# Altium footprint library mcm-imx93_footprint.PcbLib: 1 footprints
Each footprint in its own frame and in the unit in brackets; x right, y up, seen from the top. Pads: shape width x height; smd on the part's side, far side on the other; paste and mask are expansions set on the pad; w line width, h text height; cw(c..) or ccw(c..) is an arc to the next point about the centre after c.
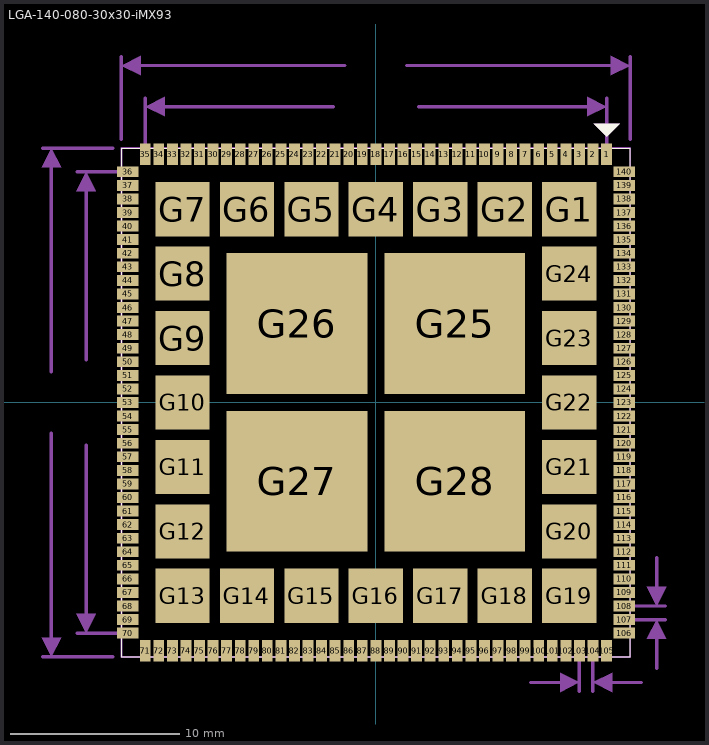
[diagram p0: the footprint, top view; thin cyan lines are the x and y axes]

## LGA-140-080-30x30-iMX93 [mm]
height 0.025
pads (168):
  rrect0% 0.64x1.275 smd paste-2539.97 mask+0: 1(13.6,14.637) 2(12.8,14.637) 3(12,14.637) 4(11.2,14.637) 5(10.4,14.637) 6(9.6,14.637) 7(8.8,14.637) 8(8,14.637) 9(7.2,14.637) 10(6.4,14.637) 11(5.6,14.637) 12(4.8,14.637) 13(4,14.637) 14(3.2,14.637) 15(2.4,14.637) 16(1.6,14.637) 17(0.8,14.637) 18(0,14.637) 19(-0.8,14.637) 20(-1.6,14.637) 21(-2.4,14.637) 22(-3.2,14.637) 23(-4,14.637) 24(-4.8,14.637) 25(-5.6,14.637) 26(-6.4,14.637) 27(-7.2,14.637) 28(-8,14.637) 29(-8.8,14.637) 30(-9.6,14.637) 31(-10.4,14.637) 32(-11.2,14.637) 33(-12,14.637) 34(-12.8,14.637) 35(-13.6,14.637) 71(-13.6,-14.638) 72(-12.8,-14.638) 73(-12,-14.638) 74(-11.2,-14.638) 75(-10.4,-14.638) 76(-9.6,-14.638) 77(-8.8,-14.638) 78(-8,-14.638) 79(-7.2,-14.638) 80(-6.4,-14.638) 81(-5.6,-14.638) 82(-4.8,-14.638) 83(-4,-14.638) 84(-3.2,-14.638) 85(-2.4,-14.638) 86(-1.6,-14.638) 87(-0.8,-14.638) 88(0,-14.638) 89(0.8,-14.638) 90(1.6,-14.638) 91(2.4,-14.638) 92(3.2,-14.638) 93(4,-14.638) 94(4.8,-14.638) 95(5.6,-14.638) 96(6.4,-14.638) 97(7.2,-14.638) 98(8,-14.638) 99(8.8,-14.638) 100(9.6,-14.638) 101(10.4,-14.638) 102(11.2,-14.638) 103(12,-14.638) 104(12.8,-14.638) 105(13.6,-14.638)
  rrect0% 1.275x0.64 smd paste-2539.97 mask+0: 36(-14.638,13.6) 37(-14.638,12.8) 38(-14.638,12) 39(-14.638,11.2) 40(-14.638,10.4) 41(-14.638,9.6) 42(-14.638,8.8) 43(-14.638,8) 44(-14.638,7.2) 45(-14.638,6.4) 46(-14.638,5.6) 47(-14.638,4.8) 48(-14.638,4) 49(-14.638,3.2) 50(-14.638,2.4) 51(-14.638,1.6) 52(-14.638,0.8) 53(-14.638,0) 54(-14.638,-0.8) 55(-14.638,-1.6) 56(-14.638,-2.4) 57(-14.638,-3.2) 58(-14.638,-4) 59(-14.638,-4.8) 60(-14.638,-5.6) 61(-14.638,-6.4) 62(-14.638,-7.2) 63(-14.638,-8) 64(-14.638,-8.8) 65(-14.638,-9.6) 66(-14.638,-10.4) 67(-14.638,-11.2) 68(-14.638,-12) 69(-14.638,-12.8) 70(-14.638,-13.6) 106(14.637,-13.6) 107(14.637,-12.8) 108(14.637,-12) 109(14.637,-11.2) 110(14.637,-10.4) 111(14.637,-9.6) 112(14.637,-8.8) 113(14.637,-8) 114(14.637,-7.2) 115(14.637,-6.4) 116(14.637,-5.6) 117(14.637,-4.8) 118(14.637,-4) 119(14.637,-3.2) 120(14.637,-2.4) 121(14.637,-1.6) 122(14.637,-0.8) 123(14.637,0) 124(14.637,0.8) 125(14.637,1.6) 126(14.637,2.4) 127(14.637,3.2) 128(14.637,4) 129(14.637,4.8) 130(14.637,5.6) 131(14.637,6.4) 132(14.637,7.2) 133(14.637,8) 134(14.637,8.8) 135(14.637,9.6) 136(14.637,10.4) 137(14.637,11.2) 138(14.637,12) 139(14.637,12.8) 140(14.637,13.6)
  rrect0% 3.2x3.2 smd paste-2539.97 mask+0: G1(11.4,11.4) G2(7.6,11.4) G3(3.8,11.4) G4(0,11.4) G5(-3.8,11.4) G6(-7.6,11.4) G7(-11.4,11.4) G8(-11.4,7.6) G9(-11.4,3.8) G10(-11.4,0) G11(-11.4,-3.8) G12(-11.4,-7.6) G13(-11.4,-11.4) G14(-7.6,-11.4) G15(-3.8,-11.4) G16(0,-11.4) G17(3.8,-11.4) G18(7.6,-11.4) G19(11.4,-11.4) G20(11.4,-7.6) G21(11.4,-3.8) G22(11.4,0) G23(11.4,3.8) G24(11.4,7.6)
  rrect0% 8.3x8.3 smd paste-2539.97 mask+0.05: G25(4.65,4.65) G26(-4.65,4.65) G27(-4.65,-4.65) G28(4.65,-4.65)
Top Overlay:
  region: 12.859,16.437 13.621,15.675 14.383,16.437
  lines w0: -15,-15 15,-15 15,15 -15,15 -15,-15
Top Paste:
  drawing of 236 lines, arcs and shapes, not listed
Top Assembly:
  region: 12.859,16.437 13.621,15.675 14.383,16.437
  region: 12,-16.508 10.857,-17.08 10.857,-15.937
  region: 12.8,-16.508 13.943,-15.937 13.943,-17.08
  region: 16.556,-12 15.985,-10.857 17.128,-10.857
  region: 16.556,-12.8 17.128,-13.943 15.985,-13.943
  region: -19.135,-15 -19.706,-13.857 -18.563,-13.857
  region: -19.135,15 -18.563,13.857 -19.706,13.857
  region: -17.086,13.6 -16.515,12.457 -17.658,12.457
  region: -17.086,-13.6 -17.658,-12.457 -16.515,-12.457
  region: -15,19.868 -13.857,20.439 -13.857,19.296
  region: 15,19.868 13.857,19.296 13.857,20.439
  region: -13.6,17.44 -12.457,18.012 -12.457,16.869
  region: 13.6,17.44 12.457,16.869 12.457,18.012
  lines w0.1: -15,-15 15,-15 15,15 -15,15 -15,-15
  lines w0.203: -19.643,-15 -15.508,-15 ; -19.643,15 -15.508,15 ; -19.135,-14.429 -19.135,-1.821 ; -19.135,1.821 -19.135,14.428 ; -17.594,-13.6 -15.146,-13.6 ; -17.594,13.6 -15.146,13.6 ; -17.086,-13.029 -17.086,-2.518 ; -17.086,2.518 -17.086,13.029 ; -15,15.508 -15,20.376 ; -14.429,19.868 -1.821,19.868 ; -13.6,15.145 -13.6,17.948 ; -13.029,17.44 -2.518,17.44 ; 1.821,19.868 14.429,19.868 ; 2.518,17.44 13.029,17.44 ; 9.142,-16.508 11.428,-16.508 ; 12,-17.016 12,-15.146 ; 12.8,-17.016 12.8,-15.146 ; 13.371,-16.508 15.657,-16.508 ; 13.6,15.145 13.6,17.948 ; 15,15.508 15,20.376 ; 15.145,-12.8 17.064,-12.8 ; 15.145,-12 17.064,-12 ; 16.556,-15.657 16.556,-13.371 ; 16.556,-11.428 16.556,-9.142
  text "27.2mm" at -2.199,17.04 h0.8
  text "30mm" at -1.466,19.468 h0.8
  text "27.2mm" at -16.686,-2.199 h0.8
  text "30mm" at -18.735,-1.466 h0.8
  text "0.8mm" at 10.464,-18.571 h0.8
  text "0.8mm" at 18.536,-14.382 h0.8
Top Courtyard:
  lines w0: -15,-15 15,-15 15,15 -15,15 -15,-15
Mechanical 7:
  text ".Designator" at -4.998,-0.333 h1
  text ".Designator" at -4.998,-0.333 h1
Mechanical 9:
  text ".Part No" at -18.665,-18.04 h1
3D body: height 0.03, standoff 0, extent -15,-15 15,15